# EAGLE library part P90CL301 (library micro-philips)
MICROCONTROLLER
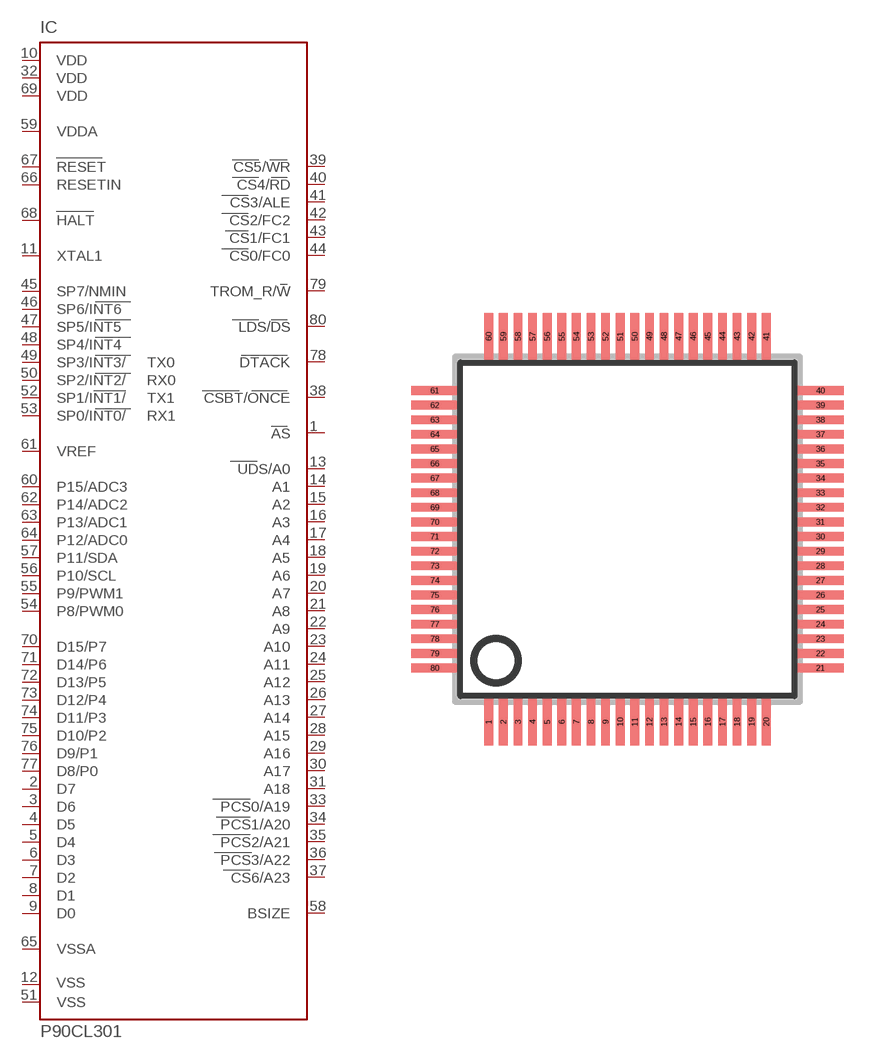
[diagram p0: symbol with the pads of QFP12-80; footprint QFP12-80]

Designator prefix IC

## P90CL301  [QFP12-80]
1  AS  out
2  D7
3  D6
4  D5
5  D4
6  D3
7  D2
8  D1
9  D0
10  VDD  pwr
11  XTAL1  in
12  VSS  pwr
13  UDS/A0  out
14  A1  out
15  A2  out
16  A3  out
17  A4  out
18  A5  out
19  A6  out
20  A7  out
21  A8  out
22  A9  out
23  A10  out
24  A11  out
25  A12  out
26  A13  out
27  A14  out
28  A15  out
29  A16  out
30  A17  out
31  A18  out
32  VDD  pwr
33  PCS0/A19  out
34  PCS1/A20  out
35  PCS2/A21  out
36  PCS3/A22  out
37  CS6/A23  out
38  CSBT/ONCE
39  CS5/WR  out
40  CS4/RD  out
41  CS3/ALE  out
42  CS2/FC2
43  CS1/FC1
44  CS0/FC0
45  SP7/NMIN
46  SP6/INT6
47  SP5/INT5
48  SP4/INT4
49  SP3/INT3/
50  SP2/INT2/
51  VSS  pwr
52  SP1/INT1/
53  SP0/INT0/
54  P8/PWM0
55  P9/PWM1
56  P10/SCL
57  P11/SDA
58  BSIZE  out
59  VDDA  pwr
60  P15/ADC3
61  VREF  pas
62  P14/ADC2
63  P13/ADC1
64  P12/ADC0
65  VSSA  pwr
66  RESETIN  in
67  RESET
68  HALT
69  VDD  pwr
70  D15/P7
71  D14/P6
72  D13/P5
73  D12/P4
74  D11/P3
75  D10/P2
76  D9/P1
77  D8/P0
78  DTACK  out
79  TROM_R/W
80  LDS/DS  out

## Footprint QFP12-80 (pad centres in mm)
Quad Flat Pack
smd 0.3 x 1.6: 1 -4.75,-6.6; 2 -4.25,-6.6; 3 -3.75,-6.6; 4 -3.25,-6.6; 5 -2.75,-6.6; 6 -2.25,-6.6; 7 -1.75,-6.6; 8 -1.25,-6.6; 9 -0.75,-6.6; 10 -0.25,-6.6; 11 0.25,-6.6; 12 0.75,-6.6; 13 1.25,-6.6; 14 1.75,-6.6; 15 2.25,-6.6; 16 2.75,-6.6; 17 3.25,-6.6; 18 3.75,-6.6; 19 4.25,-6.6; 20 4.75,-6.6; 41 4.75,6.6; 42 4.25,6.6; 43 3.75,6.6; 44 3.25,6.6; 45 2.75,6.6; 46 2.25,6.6; 47 1.75,6.6; 48 1.25,6.6; 49 0.75,6.6; 50 0.25,6.6; 51 -0.25,6.6; 52 -0.75,6.6; 53 -1.25,6.6; 54 -1.75,6.6; 55 -2.25,6.6; 56 -2.75,6.6; 57 -3.25,6.6; 58 -3.75,6.6; 59 -4.25,6.6; 60 -4.75,6.6
smd 1.6 x 0.3: 21 6.6,-4.75; 22 6.6,-4.25; 23 6.6,-3.75; 24 6.6,-3.25; 25 6.6,-2.75; 26 6.6,-2.25; 27 6.6,-1.75; 28 6.6,-1.25; 29 6.6,-0.75; 30 6.6,-0.25; 31 6.6,0.25; 32 6.6,0.75; 33 6.6,1.25; 34 6.6,1.75; 35 6.6,2.25; 36 6.6,2.75; 37 6.6,3.25; 38 6.6,3.75; 39 6.6,4.25; 40 6.6,4.75; 61 -6.6,4.75; 62 -6.6,4.25; 63 -6.6,3.75; 64 -6.6,3.25; 65 -6.6,2.75; 66 -6.6,2.25; 67 -6.6,1.75; 68 -6.6,1.25; 69 -6.6,0.75; 70 -6.6,0.25; 71 -6.6,-0.25; 72 -6.6,-0.75; 73 -6.6,-1.25; 74 -6.6,-1.75; 75 -6.6,-2.25; 76 -6.6,-2.75; 77 -6.6,-3.25; 78 -6.6,-3.75; 79 -6.6,-4.25; 80 -6.6,-4.75